# EAGLE library part BQ24168RGET (library LinnesLab-Power)
EAGLE model of BQ24168RGET - multi-cell battery charger. Footprint taken from SnapEDA, Footprint made in-house. GND is connected to thermal pad through external vias (pins 25-30).
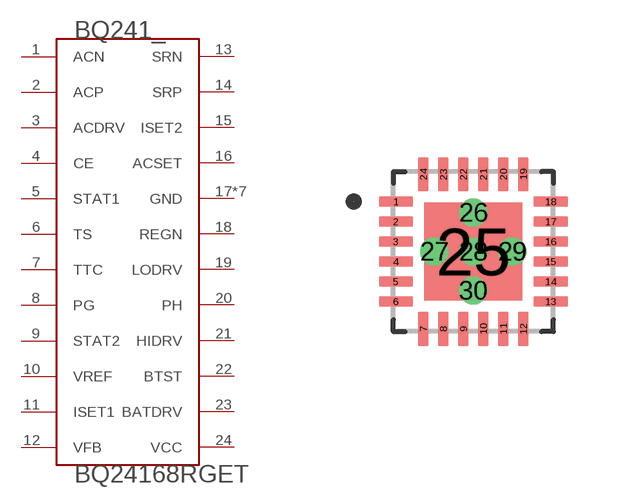
[diagram p9: symbol with the pads of BQ24168RGET; footprint BQ24168RGET]

Designator prefix BQ241_

## BQ24168RGET  [BQ24168RGET]
1  ACN
2  ACP
3  ACDRV
4  CE
5  STAT1
6  TS
7  TTC
8  PG
9  STAT2
10  VREF
11  ISET1
12  VFB
13  SRN
14  SRP
15  ISET2
16  ACSET
17  GND
18  REGN
19  LODRV
20  PH
21  HIDRV
22  BTST
23  BATDRV
24  VCC
25  GND
26  GND
27  GND
28  GND
29  GND
30  GND

## Footprint BQ24168RGET (pad centres in mm)
smd 0.86 x 0.27: 1 -1.935,1.25; 2 -1.935,0.75; 3 -1.935,0.25; 4 -1.935,-0.25; 5 -1.935,-0.75; 6 -1.935,-1.25; 13 1.935,-1.25; 14 1.935,-0.75; 15 1.935,-0.25; 16 1.935,0.25; 17 1.935,0.75; 18 1.935,1.25
smd 0.27 x 0.86: 7 -1.25,-1.935; 8 -0.75,-1.935; 9 -0.25,-1.935; 10 0.25,-1.935; 11 0.75,-1.935; 12 1.25,-1.935; 19 1.25,1.935; 20 0.75,1.935; 21 0.25,1.935; 22 -0.25,1.935; 23 -0.75,1.935; 24 -1.25,1.935
smd 2.45 x 2.45: 25 0,0
drill 0.2 pad 0.4: 26 0,0.975; 27 -0.975,0; 28 0,0; 29 0.975,0; 30 0,-0.975